# EAGLE library part M74HC373M1R (library ST Microelctronics_By_element14_Batch_1)
OCTAL D-TYPE LATCH
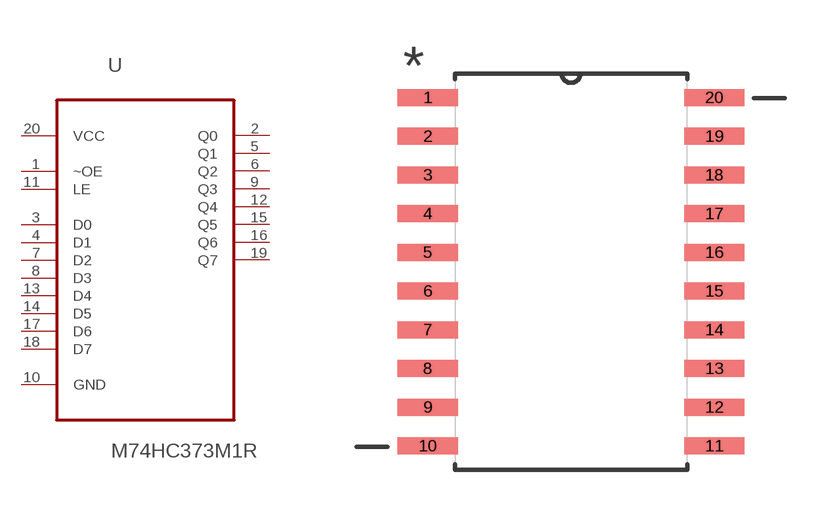
[diagram p230: symbol with the pads of SOIC127P1032X265-20N; footprint SOIC127P1032X265-20N]

Designator prefix U

## M74HC373M1R (MPN: M74HC373M1R; OC_FARNELL: 1094299; OC_NEWARK: -; PACKAGE: SOIC-20; SUPPLIER: STMICROELECTRONICS)  [SOIC127P1032X265-20N]
1  ~OE  in
2  Q0  out
3  D0  in
4  D1  in
5  Q1  out
6  Q2  out
7  D2  in
8  D3  in
9  Q3  out
10  GND  pas
11  LE  in
12  Q4  out
13  D4  in
14  D5  in
15  Q5  out
16  Q6  out
17  D6  in
18  D7  in
19  Q7  out
20  VCC  pwr

## Footprint SOIC127P1032X265-20N (pad centres in mm)
smd 1.981 x 0.559: 1 -4.699,5.715; 2 -4.699,4.445; 3 -4.699,3.175; 4 -4.699,1.905; 5 -4.699,0.635; 6 -4.699,-0.635; 7 -4.699,-1.905; 8 -4.699,-3.175; 9 -4.699,-4.445; 10 -4.699,-5.715; 11 4.699,-5.715; 12 4.699,-4.445; 13 4.699,-3.175; 14 4.699,-1.905; 15 4.699,-0.635; 16 4.699,0.635; 17 4.699,1.905; 18 4.699,3.175; 19 4.699,4.445; 20 4.699,5.715